# Altium footprint library adafruit.PCBLIB: 643 footprints (part 1 of 41)
Each footprint in its own frame and in the unit in brackets; x right, y up, seen from the top. Pads: shape width x height; smd on the part's side, far side on the other; paste and mask are expansions set on the pad; w line width, h text height; cw(c..) or ccw(c..) is an arc to the next point about the centre after c.
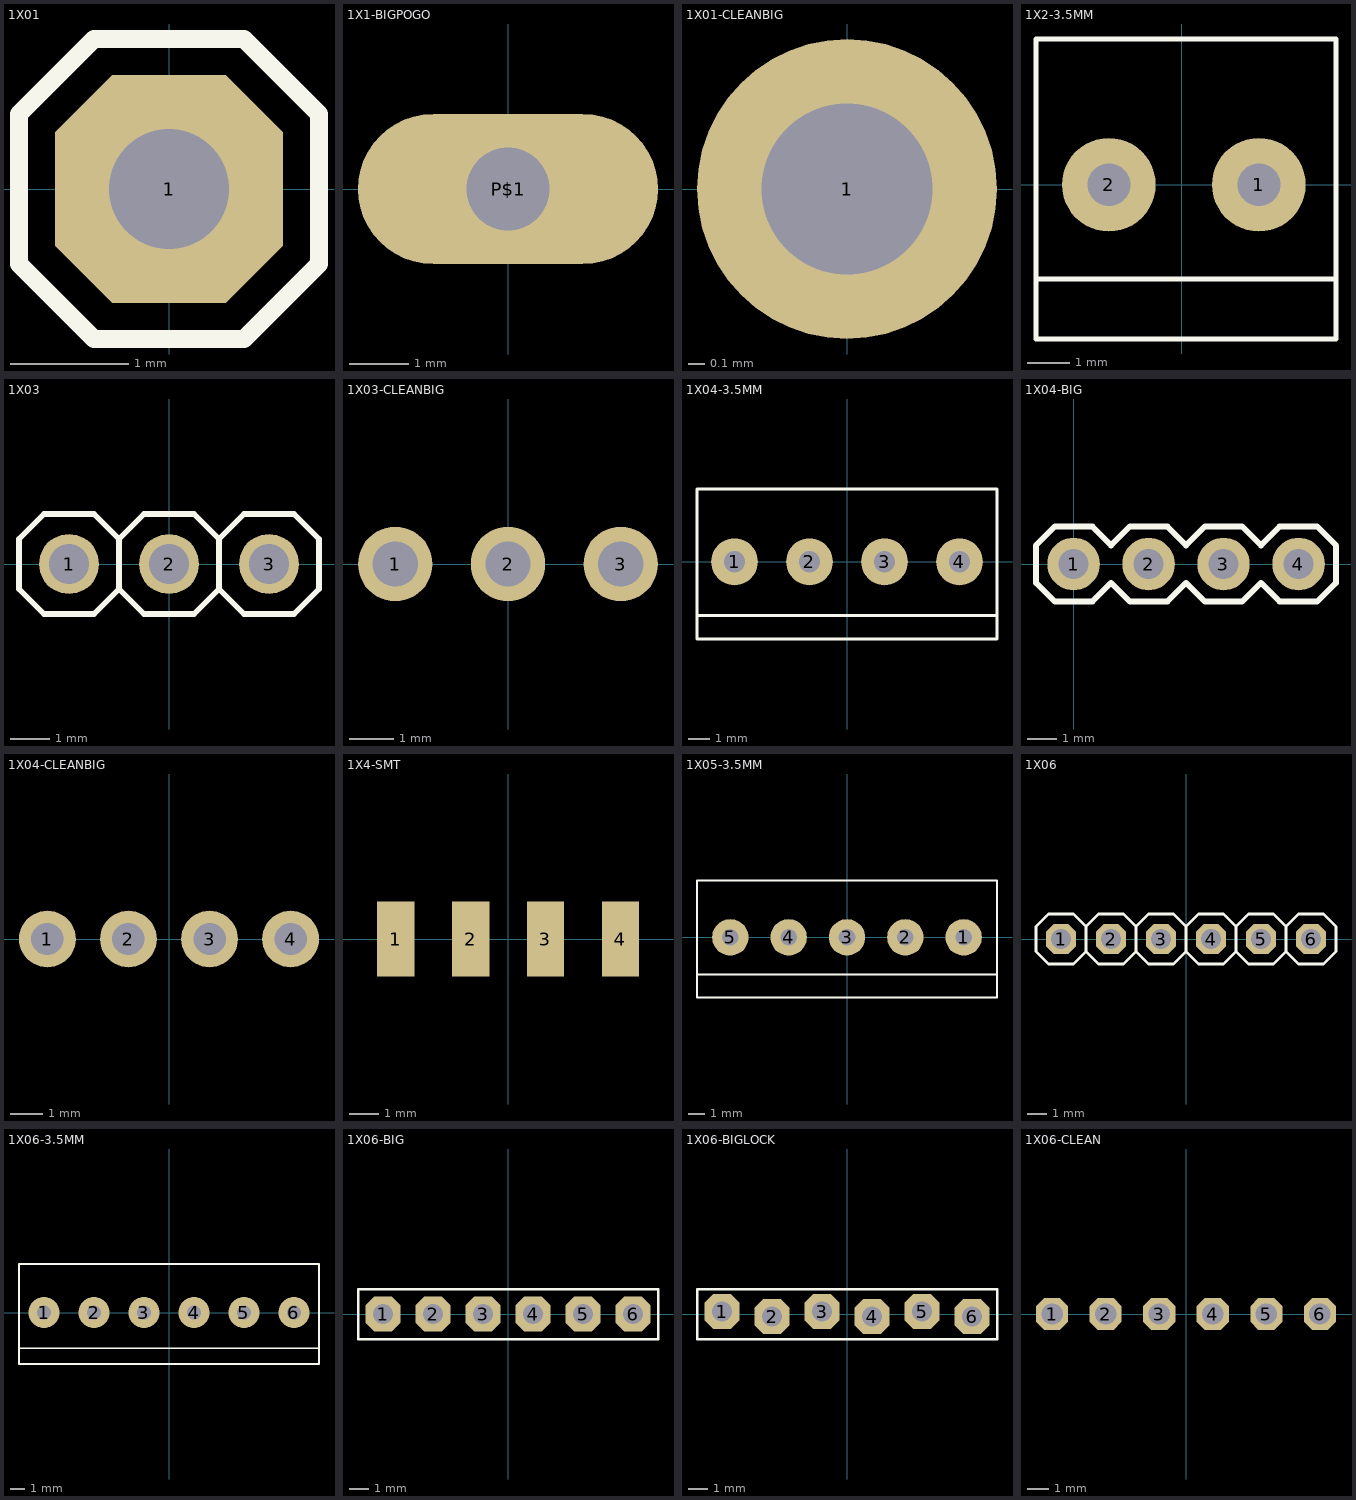
[diagram p0: the footprints below, top view; thin cyan lines are the x and y axes]

## 1X01 [mil]
pads (1):
  oct 76x76 hole 40: 1(0,0)
Top Overlay:
  lines w6: -50,-25 -50,25 -25,50 25,50 50,25 50,-25 25,-50 -25,-50 -50,-25
Mechanical 16:
  rectangle: -10,-10 10,10

## 1X1-BIGPOGO [mil]
pads (1):
  oval 200x100 hole 55.12: P$1(0,0)

## 1X01-CLEANBIG [mil]
pads (1):
  round 70 hole 40: 1(0,0)

## 1X2-3.5MM [mil]
pads (2):
  round 86 hole 39.37: 1(70.87,0) 2(-66.93,0)
Top Overlay:
  lines w5: -133.86,-86.61 -133.86,133.86 141.73,133.86 141.73,-86.61 ; -133.86,-86.61 -133.86,-141.73 141.73,-141.73 141.73,-86.61 ; -133.86,-86.61 141.73,-86.61

## 1X03 [mil]
pads (3):
  round 60 hole 40: 1(-100,0) 2(0,0) 3(100,0)
Top Overlay:
  lines w6: -50,-25 -50,25 ; -50,-25 -75,-50 -125,-50 -150,-25 -150,25 -125,50 -75,50 -50,25 ; -50,-25 -25,-50 25,-50 50,-25 ; -50,25 -25,50 25,50 50,25 ; 50,-25 50,25 ; 50,-25 75,-50 125,-50 150,-25 150,25 125,50 75,50 50,25
Mechanical 16:
  rectangle: -10,-10 10,10
  rectangle: -110,-10 -90,10
  rectangle: 90,-10 110,10

## 1X03-CLEANBIG [mil]
pads (3):
  round 66 hole 40: 1(-100,0) 2(0,0) 3(100,0)
Mechanical 16:
  rectangle: -10,-10 10,10
  rectangle: -110,-10 -90,10
  rectangle: 90,-10 110,10

## 1X04-3.5MM [mil]
pads (4):
  round 86 hole 39.37: 1(-206.69,0) 2(-68.9,0) 3(68.9,0) 4(206.69,0)
Top Overlay:
  lines w5: -275.59,-98.43 -275.59,133.86 275.59,133.86 275.59,-98.43 ; -275.59,-98.43 -275.59,-141.73 275.59,-141.73 275.59,-98.43 ; -275.59,-98.43 275.59,-98.43

## 1X04-BIG [mil]
pads (4):
  round 70 hole 40: 1(0,0) 2(100,0) 3(200,0) 4(300,0)
Top Overlay:
  lines w8: -50,-25 -50,25 -25,50 25,50 50,25 75,50 125,50 150,25 175,50 225,50 250,25 275,50 325,50 350,25 350,-25 325,-50 275,-50 250,-25 225,-50 175,-50 150,-25 125,-50 75,-50 50,-25 25,-50 -25,-50 -50,-25
Mechanical 16:
  rectangle: 290,-10 310,10
  rectangle: 190,-10 210,10
  rectangle: 90,-10 110,10
  rectangle: -10,-10 10,10

## 1X04-CLEANBIG [mil]
pads (4):
  round 70 hole 40: 1(-150,0) 2(-50,0) 3(50,0) 4(150,0)
Mechanical 16:
  rectangle: 140,-10 160,10
  rectangle: 40,-10 60,10
  rectangle: -60,-10 -40,10
  rectangle: -160,-10 -140,10

## 1X4-SMT [mil]
pads (4):
  rect 50x100 smd: 1(-150,0) 2(-50,0) 3(50,0) 4(150,0)

## 1X05-3.5MM [mil]
pads (5):
  round 86 hole 39.37: 1(275.59,0) 2(137.8,0) 3(0,0) 4(-137.8,0) 5(-275.59,0)
Top Overlay:
  lines w5: -354.33,-88.19 -354.33,133.86 354.33,133.86 354.33,-88.19 ; -354.33,-88.19 -354.33,-141.73 354.33,-141.73 354.33,-88.19 ; -354.33,-88.19 354.33,-88.19

## 1X06 [mil]
pads (6):
  oct 60x60 hole 40: 1(-250,0) 2(-150,0) 3(-50,0) 4(50,0) 5(150,0) 6(250,0)
Top Overlay:
  lines w6: -200,-25 -200,25 ; -200,-25 -225,-50 -275,-50 -300,-25 -300,25 -275,50 -225,50 -200,25 ; -200,-25 -175,-50 -125,-50 -100,-25 ; -200,25 -175,50 -125,50 -100,25 ; -100,-25 -75,-50 -25,-50 0,-25 ; -100,-25 -100,25 ; -100,25 -75,50 -25,50 0,25 ; 0,-25 0,25 ; 0,-25 25,-50 75,-50 100,-25 ; 0,25 25,50 75,50 100,25 ; 100,-25 100,25 ; 100,-25 125,-50 175,-50 200,-25 ; 100,25 125,50 175,50 200,25 ; 200,-25 200,25 ; 200,-25 225,-50 275,-50 300,-25 300,25 275,50 225,50 200,25
Mechanical 16:
  rectangle: 140,-10 160,10
  rectangle: 40,-10 60,10
  rectangle: -60,-10 -40,10
  rectangle: -160,-10 -140,10
  rectangle: -260,-10 -240,10
  rectangle: 240,-10 260,10

## 1X06-3.5MM [mil]
pads (6):
  round 86 hole 39.37: 1(-344.49,0) 2(-206.69,0) 3(-68.9,0) 4(68.9,0) 5(206.69,0) 6(344.49,0)
Top Overlay:
  lines w5: -413.39,-98.43 -413.39,133.86 413.39,133.86 413.39,-98.43 ; -413.39,-98.43 -413.39,-141.73 413.39,-141.73 413.39,-98.43 ; -413.39,-98.43 413.39,-98.43

## 1X06-BIG [mil]
pads (6):
  oct 70x70 hole 40: 1(-250,0) 2(-150,0) 3(-50,0) 4(50,0) 5(150,0) 6(250,0)
Top Overlay:
  lines w5: -300,-50 300,-50 300,50 -300,50 -300,-50
Mechanical 16:
  rectangle: 140,-10 160,10
  rectangle: 40,-10 60,10
  rectangle: -60,-10 -40,10
  rectangle: -160,-10 -140,10
  rectangle: -260,-10 -240,10
  rectangle: 240,-10 260,10

## 1X06-BIGLOCK [mil]
pads (6):
  oct 70x70 hole 40: 1(-250,5) 2(-150,-5) 3(-50,5) 4(50,-5) 5(150,5) 6(250,-5)
Top Overlay:
  lines w5: -300,-50 300,-50 300,50 -300,50 -300,-50
Mechanical 16:
  rectangle: 140,-10 160,10
  rectangle: 40,-10 60,10
  rectangle: -60,-10 -40,10
  rectangle: -160,-10 -140,10
  rectangle: -260,-10 -240,10
  rectangle: 240,-10 260,10

## 1X06-CLEAN [mil]
pads (6):
  oct 60x60 hole 40: 1(-250,0) 2(-150,0) 3(-50,0) 4(50,0) 5(150,0) 6(250,0)
Mechanical 16:
  rectangle: 140,-10 160,10
  rectangle: 40,-10 60,10
  rectangle: -60,-10 -40,10
  rectangle: -160,-10 -140,10
  rectangle: -260,-10 -240,10
  rectangle: 240,-10 260,10